# EAGLE library part FIRE3 (library Atari)
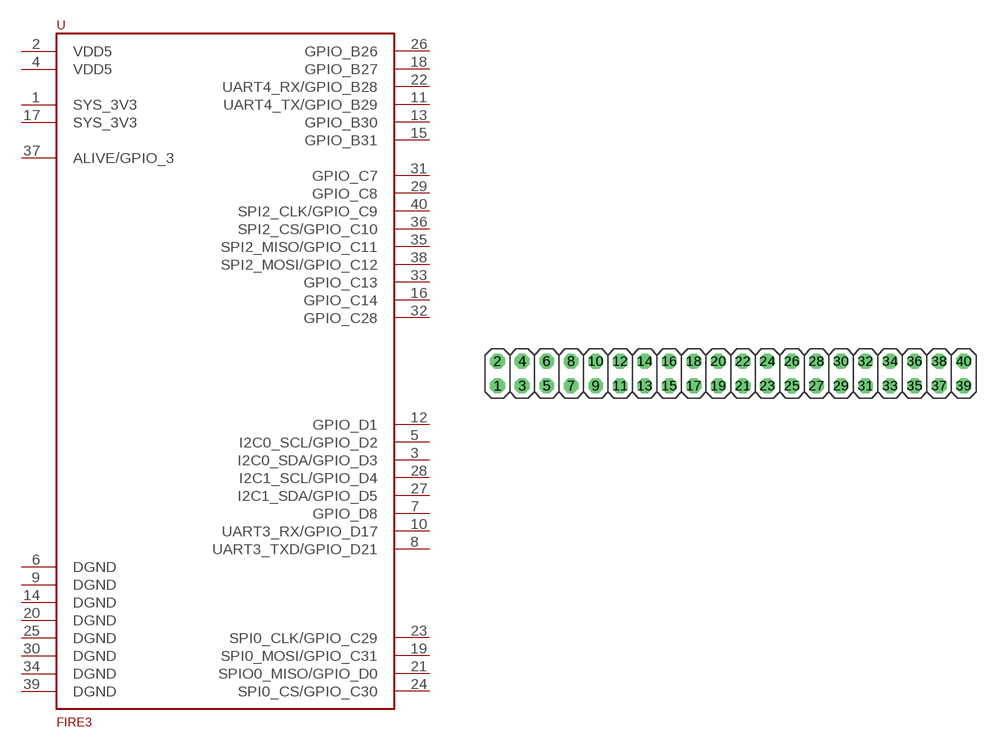
[diagram p6: symbol with the pads of 2X20; footprint 2X20]

Designator prefix -

## FIRE3  [2X20]
1  SYS_3V3
2  VDD5
3  I2C0_SDA/GPIO_D3
4  VDD5
5  I2C0_SCL/GPIO_D2
6  DGND
7  GPIO_D8
8  UART3_TXD/GPIO_D21
9  DGND
10  UART3_RX/GPIO_D17
11  UART4_TX/GPIO_B29
12  GPIO_D1
13  GPIO_B30
14  DGND
15  GPIO_B31
16  GPIO_C14
17  SYS_3V3
18  GPIO_B27
19  SPI0_MOSI/GPIO_C31
20  DGND
21  SPIO0_MISO/GPIO_D0
22  UART4_RX/GPIO_B28
23  SPI0_CLK/GPIO_C29
24  SPI0_CS/GPIO_C30
25  DGND
26  GPIO_B26
27  I2C1_SDA/GPIO_D5
28  I2C1_SCL/GPIO_D4
29  GPIO_C8
30  DGND
31  GPIO_C7
32  GPIO_C28
33  GPIO_C13
34  DGND
35  SPI2_MISO/GPIO_C11
36  SPI2_CS/GPIO_C10
37  ALIVE/GPIO_3
38  SPI2_MOSI/GPIO_C12
39  DGND
40  SPI2_CLK/GPIO_C9

## Footprint 2X20 (pad centres in mm)
PIN HEADER
drill 1.016 octagon: 1 -24.13,-1.27; 2 -24.13,1.27; 3 -21.59,-1.27; 4 -21.59,1.27; 5 -19.05,-1.27; 6 -19.05,1.27; 7 -16.51,-1.27; 8 -16.51,1.27; 9 -13.97,-1.27; 10 -13.97,1.27; 11 -11.43,-1.27; 12 -11.43,1.27; 13 -8.89,-1.27; 14 -8.89,1.27; 15 -6.35,-1.27; 16 -6.35,1.27; 17 -3.81,-1.27; 18 -3.81,1.27; 19 -1.27,-1.27; 20 -1.27,1.27; 21 1.27,-1.27; 22 1.27,1.27; 23 3.81,-1.27; 24 3.81,1.27; 25 6.35,-1.27; 26 6.35,1.27; 27 8.89,-1.27; 28 8.89,1.27; 29 11.43,-1.27; 30 11.43,1.27; 31 13.97,-1.27; 32 13.97,1.27; 33 16.51,-1.27; 34 16.51,1.27; 35 19.05,-1.27; 36 19.05,1.27; 37 21.59,-1.27; 38 21.59,1.27; 39 24.13,-1.27; 40 24.13,1.27